# Altium integrated library project-ui-v1.1.IntLib: 13 symbols
Pins are listed as number, name and electrical type; pins without a type are passive.

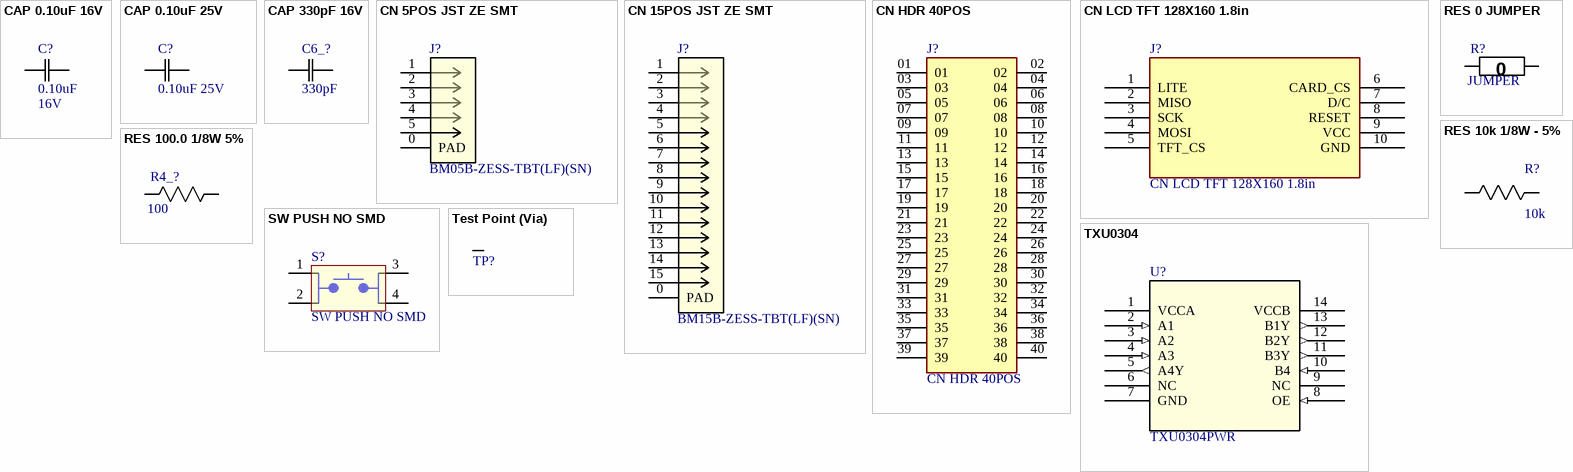
[diagram p0: symbols CAP 0.10uF 16V to TXU0304]

## CAP 0.10uF 16V
designator C?, comment Rating: 16V  (hidden comment: 0.10uF)
CAP CER 0.10UF 16V X5R 0603; Part Number: CAP 0.10uF 16V; Tolerance: 10%; Package: 0603/0805; Temperature Coefficient: X5R; Operating Temperature: -55°C ~ 85°C; Value: 0.10uF
footprint 0603
pins: 1 C1, 2 C2

## CAP 0.10uF 25V
designator C?, comment 0.10uF 25V
CAP CER 0.10UF 25V X7R 0805; Part Number: CAP 0.10uF 25V; Value: 0.1uF; Tolerance: 10%; Temperature Coefficient: X7R; Rating: 25V; Operating Temperature: -55°C ~ 125°C
footprint 0805
footprint 0603
pins: 1 C1, 2 C2

## CAP 330pF 16V
designator C6_?, comment 330pF
CAP CER 330PF 16V X5R 0603/0805; Part Number: CAP 330pF 16V; Tolerance: 10%; Value: 330pF; Rating: 16V; Temperature Coefficient: X5R; Package: 0603/0805; Operating Temperature: -55°C ~ 85°C
footprint 0603
footprint 0805
pins: 1 C1, 2 C2

## CN 5POS JST ZE SMT
designator J?, comment BM05B-ZESS-TBT(LF)(SN)
CONN HEADER VERT SMD 5POS ZE; Part Number: CN 5POS JST ZE SMT; Supplier 1: Digi-Key; Supplier Part Number 1: 455-2383-1-ND; Supplier URL 1: https://www.digikey.ca/en/products/detail/jst-sales-america-inc/BM05B-ZESS-TBT-LF-SN/1886989?s=N4IgTCBcDaIEIFkAMBWOBaAWgUQMq-QBU5CAKAGQDEBKU3AOWpAF0BfIA; Pin Count: 5; Manufacturer Part Number 1: BM05B-ZESS-TBT(LF)(SN)
footprint JST ZE SMT 5POS (5 POS HDR JST ZE)
pins: 0 PAD, 1, 2, 3, 4, 5

## CN 15POS JST ZE SMT
designator J?, comment BM15B-ZESS-TBT(LF)(SN)
CONN HEADER VERT SMD 15POS ZE; Part Number: CN 15POS JST ZE SMT; Supplier 1: Digi-Key; Supplier Part Number 1: 455-4211-1-ND; Manufacturer Part Number 1: BM15B-ZESS-TBT(LF)(SN); Supplier URL 1: https://www.digikey.ca/en/products/detail/jst-sales-america-inc/BM15B-ZESS-TBT-LF-SN/1886999?s=N4IgTCBcDaIEIFkCMBWOBaAWgUQMq-QBU5CAKAGQDEBKU3AOWpAF0BfIA; Pin Count: 15
footprint JST ZE SMT 15POS (15 POS HDR JST ZE)
pins: 0 PAD, 1, 2, 3, 4, 5, 6, 7, 8, 9, 10, 11, 12, 13, 14, 15

## CN HDR 40POS
designator J?
40 Position Header Connector; Part Number: CN HDR 40POS; Supplier 1: Digi-Key; Supplier Part Number 1: S6104-ND; Supplier URL 1: https://www.digikey.ca/en/products/detail/sullins-connector-solutions/PPTC202LFBN-RC/807240?s=N4IgTCBcDaIMoDYCMAGALAWgHIBEQF0BfIA; Pin Count: 40
footprint CN HDR 40POS 0.1 TH (40 Position Header Connector 0.100" (2.54mm) Through Hole)
pins: 01, 02, 03, 04, 05, 06, 07, 08, 09, 10, 11, 12, 13, 14, 15, 16, 17, 18, 19, 20, 21, 22, 23, 24, 25, 26, 27, 28, 29, 30, 31, 32, 33, 34, 35, 36, 37, 38, 39, 40

## CN LCD TFT 128X160 1.8in
designator J?
Graphic LCD Display Module Transmissive Red, Green, Blue (RGB) TFT - Color SPI 1.8" (45.72mm) 128 x 160; Manufacturer Part Number 1: 358; Part Number: CN LCD TFT 128X160 1.8in; Supplier 1: Digi-Key; Supplier Part Number 1: 1528-1536-ND; Supplier URL 1: https://www.digikey.ca/en/products/detail/adafruit-industries-llc/358/5801368; Pin Count: 10
footprint CN LCD TFT 128X160 1.8in
pins: 1 LITE, 2 MISO, 3 SCK, 4 MOSI, 5 TFT_CS, 6 CARD_CS, 7 D/C, 8 RESET, 9 VCC, 10 GND

## RES 0 JUMPER
designator R?, comment JUMPER
RES SMD 0 OHM JUMPER GENERIC 0603; Part Number: RES 0 JUMPER; Manufacturer Part Number 1: RK73Z1JTTD; Value: 0; Package: 0805; Tolerance: N/A; Supplier 1: Digi-Key; Supplier Part Number 1: 2019-RK73Z1JTTDCT-ND; Supplier URL 1: https://www.digikey.ca/en/products/detail/koa-speer-electronics-inc/RK73Z1JTTD/9845478
footprint 0603 (Chip Resistor, 2-Leads, Body 1.60x0.80mm, IPC High Density)
pins: 1 R1, 2 R2

## RES 10k 1/8W - 5%
designator R?, comment 10k
RES SMD 10K OHM 5% 1/8W 0805; Part Number: RES 10k 1/8W - 5%; Power (Watts): 0.125W; Package: 0805; Value: 10k; Tolerance: 5%
footprint 0805
footprint 0603
pins: 1 R1, 2 R2

## RES 100.0 1/8W 5%
designator R4_?, comment 100
RES SMD 100 OHM 5% 1/8W 0805; Part Number: RES 100.0 1/8W 5%; Manufacturer Part Number 1: RK73B1JRTTD101J; Power (Watts): 0.125W; Package: 0805; Value: 100; Tolerance: 5%; Supplier 1: Digi-Key; Supplier Part Number 1: 2019-RK73B1JRTTD101JCT-ND; Supplier URL 1: https://www.digikey.ca/en/products/detail/koa-speer-electronics-inc/RK73B1JRTTD101J/12156165?s=N4IgTCBcDaIEoGkDsBmAQgRgFJwCq4BEMAGbAYVxAF0BfIA; Manufacturer Part Number 2: RMCF0805JT100R; Supplier 2: Digi-Key; Supplier Part Number 2: RMCF0805JT100RCT-ND; Supplier URL 2: https://www.digikey.ca/en/products/detail/stackpole-electronics-inc/RMCF0805JT100R/1757756?s=N4IgTCBcDaIEoFkDCAxADADjQVgFIBUBGNNOJfEAXQF8g; Tolerance 2: 5%
footprint 0805
footprint 0603
pins: 1 R1, 2 R2

## SW PUSH NO SMD
designator S?
Switch Tactile N.O. SPST Round Button Gull Wing 0.05A 12VDC 2.55N SMD T/R; Manufacturer Part Number 1: TL3305BF260QG / TL3305BF260QG; Part Number: SW PUSH NO SMD; Supplier 1: Digi-Key; Supplier Part Number 1: EG5354CT-ND; Supplier URL 1: https://www.digikey.ca/en/products/detail/e-switch/TL3305BF260QG/5816185?s=N4IgTCBcDaIKIHECsBmJAWAwgFQLQDkAREAXQF8g
footprint TL3305 (TL3305 SPST-NO)
pins: 1, 2, 3, 4

## Test Point (Via)
designator TP?  (value not drawn)  (no BOM)
Part Number: Test Point (Via)
footprint TP (Test point (40mil Standard))
pins: 1

## TXU0304
designator U?, comment TXU0304PWR
4-Bit Fixed Direction Voltage-Level Translator with Schmitt-Trigger Inputs  and 3-State Outputs; Mfr_Name: Texas Instruments; Copyright: Copyright (C) 2022 Ultra Librarian. All rights reserved.; Manufacturer_Part_Number: TXU0304PWR; Digi-Key_Part_Number_1: 296-TXU0304PWRTR-ND; Digi-Key_Part_Number_2: 296-TXU0304PWRCT-ND; Digi-Key_Part_Number_3: 296-TXU0304PWRDKR-ND; RefDes: RefDes; Type: DEV; Part Number: TXU0304; Supplier 1: Digi-Key; Supplier Part Number 1: 296-TXU0304PWRTR-ND; Supplier URL 1: https://www.digikey.ca/en/products/detail/texas-instruments/TXU0304PWR/14641423
footprint TXU0304
footprint 14-TSSOP
pins: 1 VCCA (power), 2 A1 (in), 3 A2 (in), 4 A3 (in), 5 A4Y (out), 6 NC, 7 GND, 8 OE (in), 9 NC, 10 B4 (in), 11 B3Y (out), 12 B2Y (out), 13 B1Y (out), 14 VCCB (power)